# Altium schematic symbol library LM2650.SchLib: 1 symbol
Pins are listed as number, name and electrical type; pins without a type are passive.

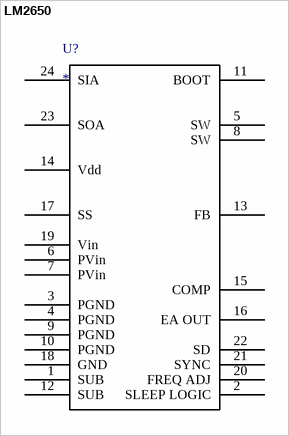
[diagram p0: symbol LM2650]

## LM2650
designator U?
pins: 1 SUB, 2 SLEEP LOGIC, 3 PGND, 4 PGND, 5 SW, 6 PVin, 7 PVin, 8 SW, 9 PGND, 10 PGND, 11 BOOT, 12 SUB, 13 FB, 14 Vdd, 15 COMP, 16 EA OUT, 17 SS, 18 GND, 19 Vin, 20 FREQ ADJ, 21 SYNC, 22 SD, 23 SOA, 24 SIA